# Altium schematic symbol library AHRS.SchLib: 12 symbols
Pins are listed as number, name and electrical type; pins without a type are passive.

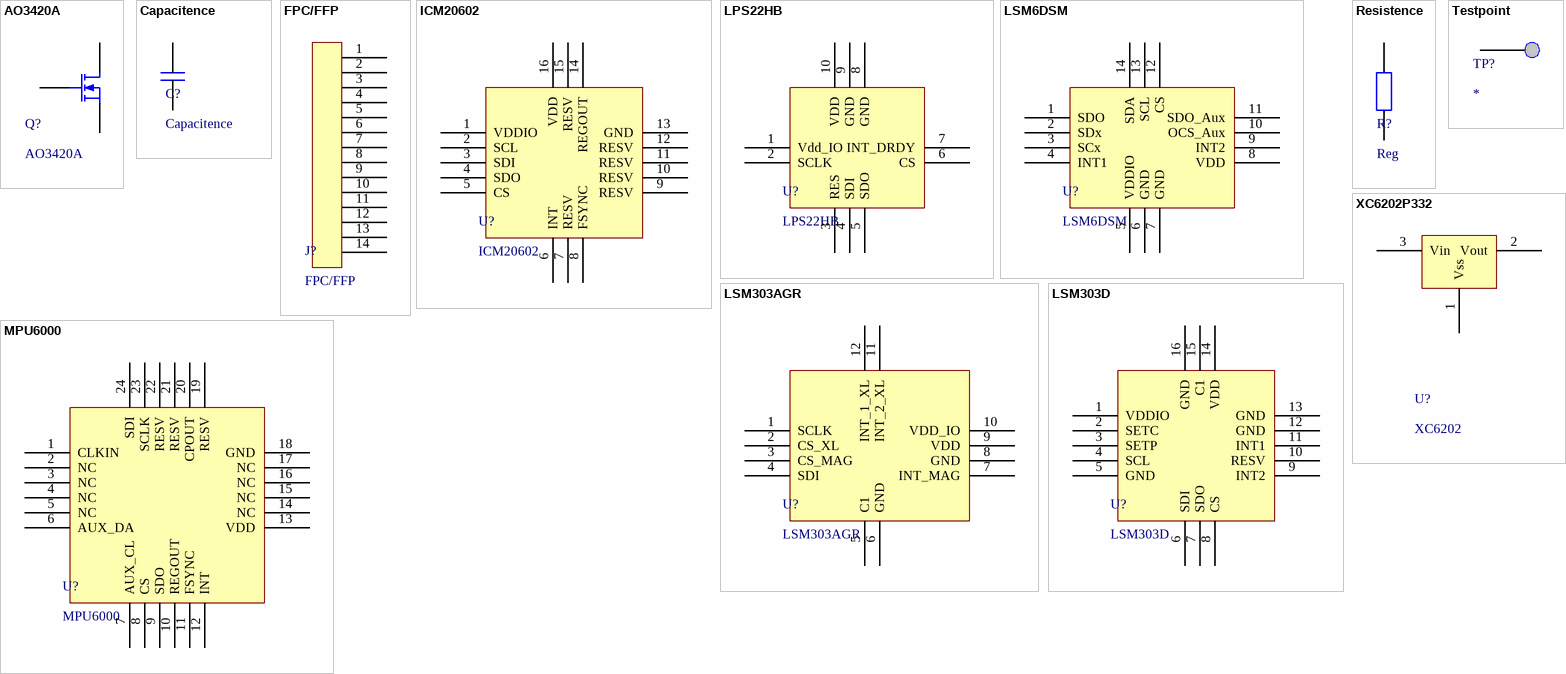
[diagram p0: symbols AO3420A to XC6202P332]

## AO3420A
designator Q?
MOSFET
footprint SOT-23
pins: 1 G, 2 S, 3 D

## Capacitence
designator C?
footprint C_0603
footprint C_0805
pins: 1, 2

## FPC/FFP
designator J?
Connector
footprint FPC/FFP
pins: 1, 2, 3, 4, 5, 6, 7, 8, 9, 10, 11, 12, 13, 14

## ICM20602
designator U?
IMU
footprint LGA-16
pins: 1 VDDIO, 2 SCL, 3 SDI, 4 SDO, 5 CS, 6 INT, 7 RESV, 8 FSYNC, 9 RESV, 10 RESV, 11 RESV, 12 RESV, 13 GND, 14 REGOUT, 15 RESV, 16 VDD

## LPS22HB
designator U?
Barometer
footprint HLGA-10L
pins: 1 Vdd_IO, 2 SCLK, 3 RES, 4 SDI, 5 SDO, 6 CS, 7 INT_DRDY, 8 GND, 9 GND, 10 VDD

## LSM6DSM
designator U?
IMU
footprint LGA-14L
pins: 1 SDO, 2 SDx, 3 SCx, 4 INT1, 5 VDDIO, 6 GND, 7 GND, 8 VDD, 9 INT2, 10 OCS_Aux, 11 SDO_Aux, 12 CS, 13 SCL, 14 SDA

## LSM303AGR
designator U?
Accelerometer&Compass
footprint LGA-12
pins: 1 SCLK, 2 CS_XL, 3 CS_MAG, 4 SDI, 5 C1, 6 GND, 7 INT_MAG, 8 GND, 9 VDD, 10 VDD_IO, 11 INT_2_XL, 12 INT_1_XL

## LSM303D
designator U?
Accelerometer & Compass
footprint LGA-16
pins: 1 VDDIO, 2 SETC, 3 SETP, 4 SCL, 5 GND, 6 SDI, 7 SDO, 8 CS, 9 INT2, 10 RESV, 11 INT1, 12 GND, 13 GND, 14 VDD, 15 C1, 16 GND

## MPU6000
designator U?
IMU
footprint L-QFN-24
pins: 1 CLKIN, 2 NC, 3 NC, 4 NC, 5 NC, 6 AUX_DA, 7 AUX_CL, 8 CS, 9 SDO, 10 REGOUT, 11 FSYNC, 12 INT, 13 VDD, 14 NC, 15 NC, 16 NC, 17 NC, 18 GND, 19 RESV, 20 CPOUT, 21 RESV, 22 RESV, 23 SCLK, 24 SDI

## Resistence
designator R?, comment Reg
Resistence
footprint R_0603
footprint R_2512
pins: 1, 2

## Testpoint
designator TP?
footprint Test_Point
pins: 1

## XC6202P332
designator U?, comment XC6202
LDO
footprint SOT-23
pins: 1 Vss, 2 Vout, 3 Vin